# Altium schematic symbol library ADG904BRUZ-REEL7.SchLib: 1 symbol
Pins are listed as number, name and electrical type; pins without a type are passive.

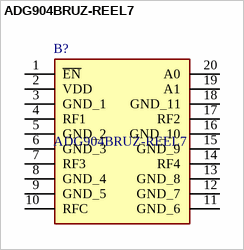
[diagram p0: symbol ADG904BRUZ-REEL7]

## ADG904BRUZ-REEL7
designator B?
RF Switch ICs W'Band Absorbtive/Refl've 4:1 MPX IC.; Manufacturer_Name: Analog Devices; Geometry.Height: 1.2mm; Mouser Part Number: 584-ADG904BRUZ-R7; Mouser Price/Stock: https://www.mouser.com/Search/Refine.aspx?Keyword=584-ADG904BRUZ-R7; Manufacturer_Part_Number: ADG904BRUZ-REEL7; Datasheet Link: https://componentsearchengine.com/Datasheets/1/ADG904BRUZ-REEL7.pdf
footprint SOP65P640X120-20N
pins: 1 ~{EN}, 2 VDD, 3 GND_1, 4 RF1, 5 GND_2, 6 GND_3, 7 RF3, 8 GND_4, 9 GND_5, 10 RFC, 11 GND_6, 12 GND_7, 13 GND_8, 14 RF4, 15 GND_9, 16 GND_10, 17 RF2, 18 GND_11, 19 A1, 20 A0